# Altium integrated library Connectors - Other.IntLib: 13 symbols
Pins are listed as number, name and electrical type; pins without a type are passive.

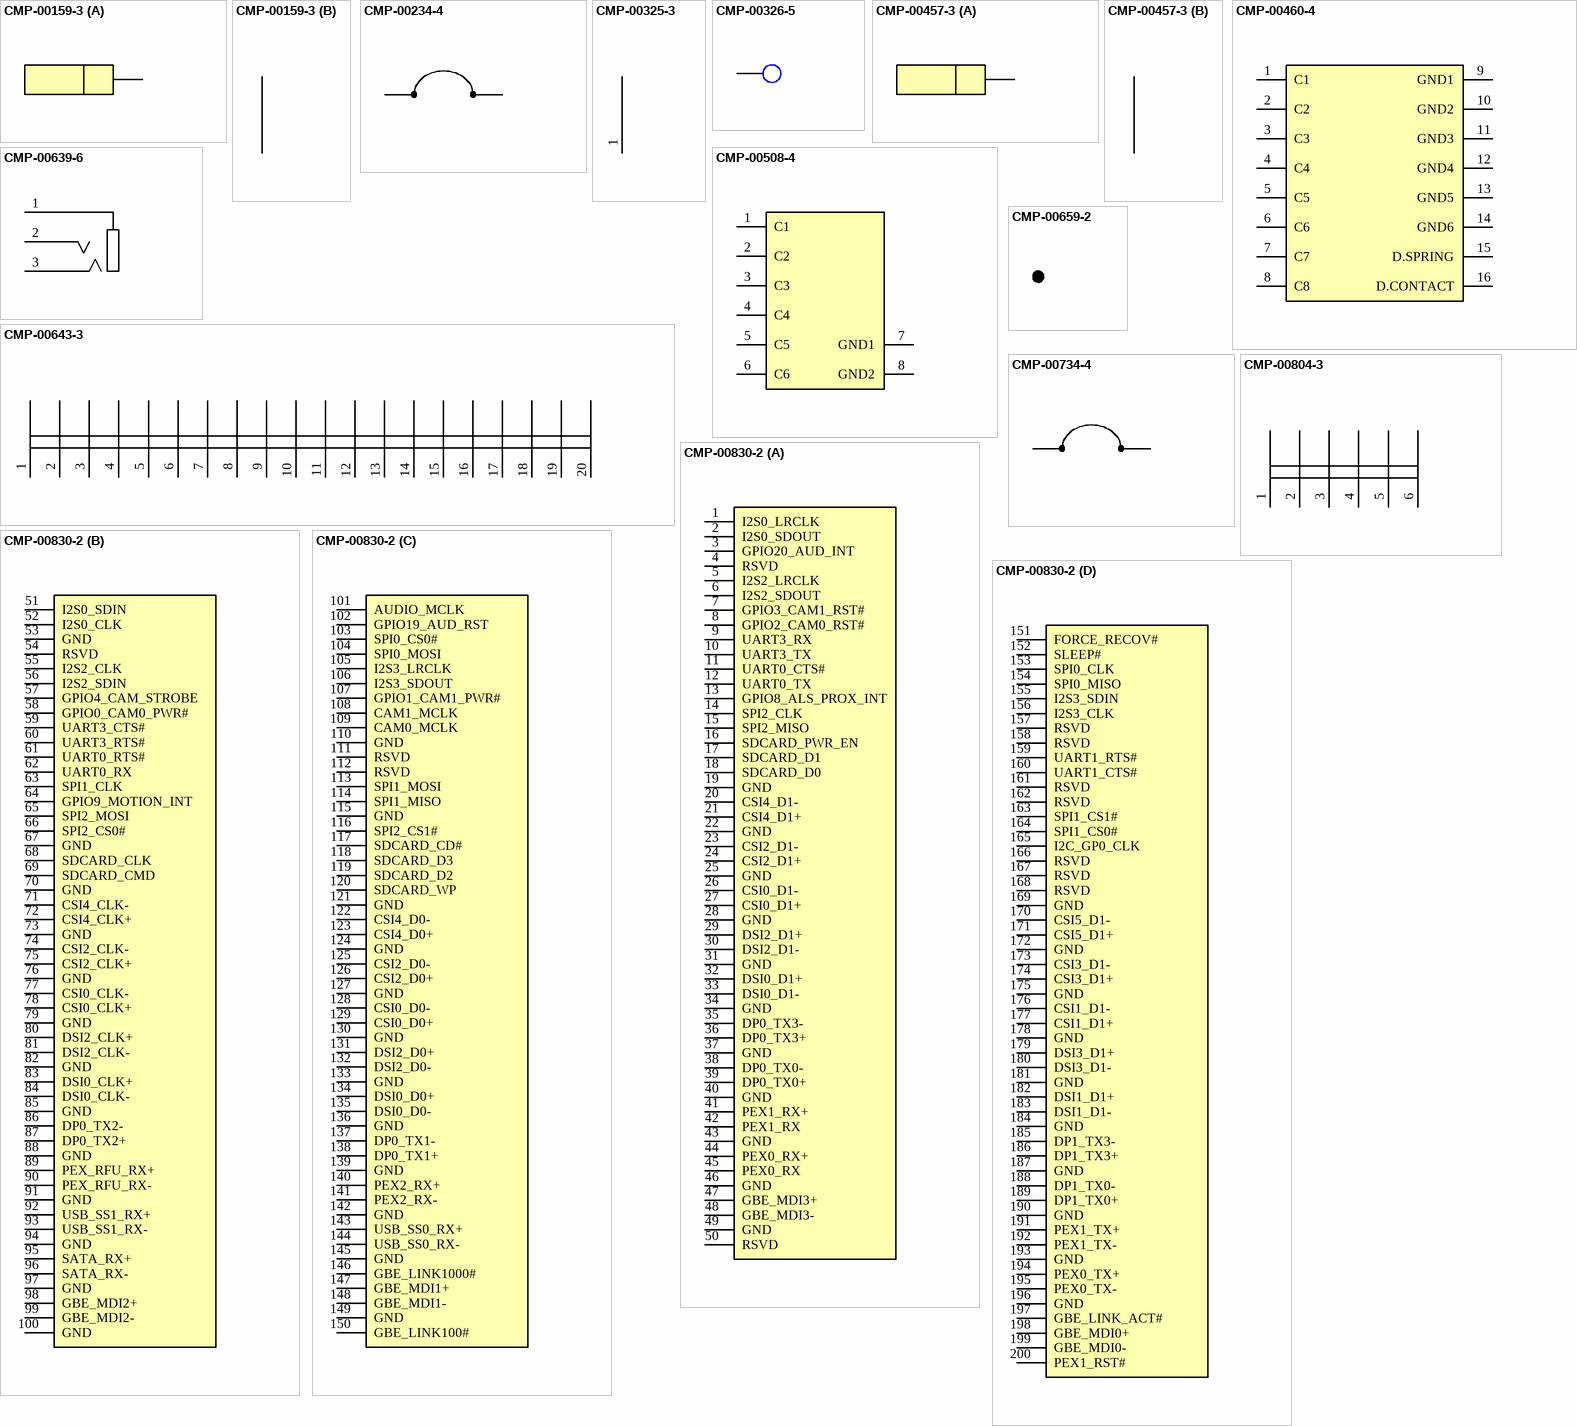
[diagram p0: symbols CMP-00159-3 to CMP-00830-2]

## CMP-00159-3
designator WT?
WT; Component Name: Connector, WT; Package: WT; Marking: *; Value: WT; ComponentLink1Description: Datasheet; ComponentLink1URL: *
footprint WT
part A pins: 1
part B pins: 1

## CMP-00234-4
designator J?, comment Jumper
Component Name: Jumper; Package: *; Marking: *; Value: *; ComponentLink1Description: Datasheet; ComponentLink1URL: *
footprint Jumper
pins: 1, 2

## CMP-00325-3
designator X?
Pad (SOIC-8); Component Name: Connector, Pad (SOIC-8); Package: PAD; Marking: *; Value: Pad (SOIC-8); ComponentLink1Description: Datasheet; ComponentLink1URL: *
footprint Pad (SOIC-8)
pins: 1

## CMP-00326-5
designator TP?  (no BOM)
TP 0.8mm; Component Name: Connector, TP 0.8mm; Package: 0.8mm; Marking: *; ComponentLink1Description: Datasheet; ComponentLink1URL: *
footprint TP 0.8mm
pins: 1

## CMP-00457-3
designator WT?
WT, 2.5x7mm; Component Name: Connector, WT, 2.5x7mm; Package: 2.5x7mm; Value: 2.5x7mm; ComponentLink1Description: Datasheet; ComponentLink1URL: *
footprint 2.5x7mm
part A pins: 1
part B pins: 1

## CMP-00460-4
designator X?, comment 115I-AEAA
115I-AEAA, MICRO SIM; Component Name: MICRO SIM, 115I-AEAA; Package: 115I-AEAA; Marking: 115I-AEAA; Value: 115I-AEAA; ComponentLink1Description: Datasheet; ComponentLink1URL: https://www.soselectronic.com/productdata/16/08/00/160800/115I-AEAA.pdf
footprint 115I-AEAA, MICRO SIM
pins: 1 C1, 2 C2, 3 C3, 4 C4, 5 C5, 6 C6, 7 C7, 8 C8, 9 GND1, 10 GND2, 11 GND3, 12 GND4, 13 GND5, 14 GND6, 15 D.SPRING, 16 D.CONTACT

## CMP-00508-4
designator X?, comment KLS1-SIM-015
KLS1-SIM-015, SIM; Component Name: SIM, KLS1-SIM-015; Package: KLS1-SIM-015; Marking: KLS1-SIM-015; Value: KLS1-SIM-015; ComponentLink1Description: Datasheet; ComponentLink1URL: http://www.klsele.com/admin/product_upload/20120423160720KLS1-SIM-015-06.pdf
footprint KLS1-SIM-015-6P
pins: 1 С1, 2 С2, 3 С3, 4 С4, 5 С5, 6 С6, 7 GND1, 8 GND2

## CMP-00639-6
designator J?, comment PJ2011C
Component Name: Phone Jack, PJ2011C 2.5mm, 5x5x12mm; Package: 5x5x12mm; Marking: PJ2011C; Value: PJ2011C; ComponentLink1Description: Datasheet; ComponentLink1URL: http://www.hy1688.com/SWITCH/DC%20JACK%20HOME/PHONE_File/PJ2011C.pdf
footprint PJ2011С
pins: 1, 2, 3

## CMP-00643-3
designator X?, comment ZF2A
ZF2A, FFC, 0.5MM, 20W; Component Name: FFC, ZF2A, 0.5mm, 20W; Package: 0.5mm x20; Marking: ZF2A; Value: ZF2A; ComponentLink1Description: Datasheet; ComponentLink1URL: *
footprint FFC 0.5MM 20W
pins: 1, 2, 3, 4, 5, 6, 7, 8, 9, 10, 11, 12, 13, 14, 15, 16, 17, 18, 19, 20

## CMP-00659-2
designator F?
Fiducial; Value: Fiducial; ComponentLink1Description: Datasheet; Component Name: Fiducial; ComponentLink1URL: *; Marking: *; Package: Fiducial
footprint Fiducial
pins: 0

## CMP-00734-4
designator J?, comment Jumper, 2.54mm
Component Name: Jumper, 2.54mm; Package: 2.54mm; Marking: Jumper; Value: Jumper; ComponentLink1Description: Datasheet; ComponentLink1URL: http://radio18.ru/catalog/docs/414.pdf
footprint Jumper 2.54
pins: 1, 2

## CMP-00804-3
designator X?, comment TC2030-IDC
Component Name: Connector, TC2030-IDC; ComponentLink1URL: http://www.tag-connect.com/Materials/TC2030-IDC.pdf; Value: TC2030-IDC; ComponentLink1Description: Datasheet; Marking: TC2030-IDC; Package: TC2030-IDC
footprint TC2030-IDC
pins: 1, 2, 3, 4, 5, 6

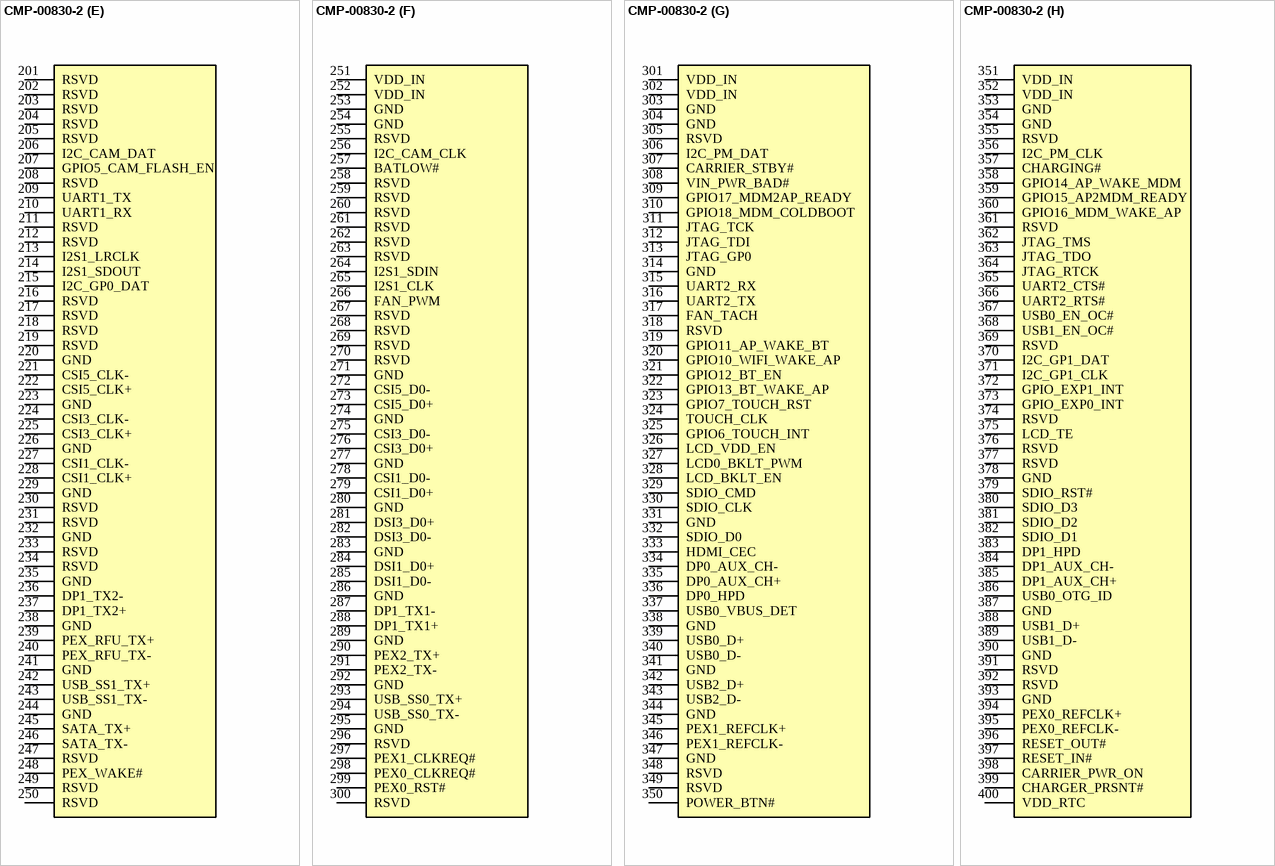
[diagram p1: symbol CMP-00830-2]

## CMP-00830-2
designator X?, comment SEAF-50-05.0-S-08-2-A-K-TR
Component Name: Connector, SEAF-50-05.0-S-08-2-A-K-TR, 400 pins, 1.27mm; ComponentLink1URL: http://suddendocs.samtec.com/catalog_english/seaf.pdf; Value: SEAF-50-05.0-S-08-2-A-K-TR; ComponentLink1Description: Datasheet; Marking: SEAF-50-05.0-S-08-2-A-K-TR; Package: SEAF-50-05.0-S-08-2-A-K-TR
footprint SEAF-50-05.0-S-08-2-A-K-TR
part A pins: 1 I2S0_LRCLK (power), 2 I2S0_SDOUT (power), 3 GPIO20_AUD_INT (power), 4 RSVD (power), 5 I2S2_LRCLK (power), 6 I2S2_SDOUT (power), 7 GPIO3_CAM1_RST# (power), 8 GPIO2_CAM0_RST# (power), 9 UART3_RX (power), 10 UART3_TX (power), 11 UART0_CTS# (power), 12 UART0_TX (power), 13 GPIO8_ALS_PROX_INT (power), 14 SPI2_CLK (power), 15 SPI2_MISO (power), 16 SDCARD_PWR_EN (power), 17 SDCARD_D1 (power), 18 SDCARD_D0 (power), 19 GND (power), 20 CSI4_D1- (power), 21 CSI4_D1+ (power), 22 GND (power), 23 CSI2_D1- (power), 24 CSI2_D1+ (power), 25 GND (power), 26 CSI0_D1- (power), 27 CSI0_D1+ (power), 28 GND (power), 29 DSI2_D1+ (power), 30 DSI2_D1- (power), 31 GND (power), 32 DSI0_D1+ (power), 33 DSI0_D1- (power), 34 GND (power), 35 DP0_TX3- (power), 36 DP0_TX3+ (power), 37 GND (power), 38 DP0_TX0- (power), 39 DP0_TX0+ (power), 40 GND (power), 41 PEX1_RX+ (power), 42 PEX1_RX (power), 43 GND (power), 44 PEX0_RX+ (power), 45 PEX0_RX (power), 46 GND (power), 47 GBE_MDI3+ (power), 48 GBE_MDI3- (power), 49 GND (power), 50 RSVD (power)
part B pins: 51 I2S0_SDIN (power), 52 I2S0_CLK (power), 53 GND (power), 54 RSVD (power), 55 I2S2_CLK (power), 56 I2S2_SDIN (power), 57 GPIO4_CAM_STROBE (power), 58 GPIO0_CAM0_PWR# (power), 59 UART3_CTS# (power), 60 UART3_RTS# (power), 61 UART0_RTS# (power), 62 UART0_RX (power), 63 SPI1_CLK (power), 64 GPIO9_MOTION_INT (power), 65 SPI2_MOSI (power), 66 SPI2_CS0# (power), 67 GND (power), 68 SDCARD_CLK (power), 69 SDCARD_CMD (power), 70 GND (power), 71 CSI4_CLK- (power), 72 CSI4_CLK+ (power), 73 GND (power), 74 CSI2_CLK- (power), 75 CSI2_CLK+ (power), 76 GND (power), 77 CSI0_CLK- (power), 78 CSI0_CLK+ (power), 79 GND (power), 80 DSI2_CLK+ (power), 81 DSI2_CLK- (power), 82 GND (power), 83 DSI0_CLK+ (power), 84 DSI0_CLK- (power), 85 GND (power), 86 DP0_TX2- (power), 87 DP0_TX2+ (power), 88 GND (power), 89 PEX_RFU_RX+ (power), 90 PEX_RFU_RX- (power), 91 GND (power), 92 USB_SS1_RX+ (power), 93 USB_SS1_RX- (power), 94 GND (power), 95 SATA_RX+ (power), 96 SATA_RX- (power), 97 GND (power), 98 GBE_MDI2+ (power), 99 GBE_MDI2- (power), 100 GND (power)
part C pins: 101 AUDIO_MCLK (power), 102 GPIO19_AUD_RST (power), 103 SPI0_CS0# (power), 104 SPI0_MOSI (power), 105 I2S3_LRCLK (power), 106 I2S3_SDOUT (power), 107 GPIO1_CAM1_PWR# (power), 108 CAM1_MCLK (power), 109 CAM0_MCLK (power), 110 GND (power), 111 RSVD (power), 112 RSVD (power), 113 SPI1_MOSI (power), 114 SPI1_MISO (power), 115 GND (power), 116 SPI2_CS1# (power), 117 SDCARD_CD# (power), 118 SDCARD_D3 (power), 119 SDCARD_D2 (power), 120 SDCARD_WP (power), 121 GND (power), 122 CSI4_D0- (power), 123 CSI4_D0+ (power), 124 GND (power), 125 CSI2_D0- (power), 126 CSI2_D0+ (power), 127 GND (power), 128 CSI0_D0- (power), 129 CSI0_D0+ (power), 130 GND (power), 131 DSI2_D0+ (power), 132 DSI2_D0- (power), 133 GND (power), 134 DSI0_D0+ (power), 135 DSI0_D0- (power), 136 GND (power), 137 DP0_TX1- (power), 138 DP0_TX1+ (power), 139 GND (power), 140 PEX2_RX+ (power), 141 PEX2_RX- (power), 142 GND (power), 143 USB_SS0_RX+ (power), 144 USB_SS0_RX- (power), 145 GND (power), 146 GBE_LINK1000# (power), 147 GBE_MDI1+ (power), 148 GBE_MDI1- (power), 149 GND (power), 150 GBE_LINK100# (power)
part D pins: 151 FORCE_RECOV# (power), 152 SLEEP# (power), 153 SPI0_CLK (power), 154 SPI0_MISO (power), 155 I2S3_SDIN (power), 156 I2S3_CLK (power), 157 RSVD (power), 158 RSVD (power), 159 UART1_RTS# (power), 160 UART1_CTS# (power), 161 RSVD (power), 162 RSVD (power), 163 SPI1_CS1# (power), 164 SPI1_CS0# (power), 165 I2C_GP0_CLK (power), 166 RSVD (power), 167 RSVD (power), 168 RSVD (power), 169 GND (power), 170 CSI5_D1- (power), 171 CSI5_D1+ (power), 172 GND (power), 173 CSI3_D1- (power), 174 CSI3_D1+ (power), 175 GND (power), 176 CSI1_D1- (power), 177 CSI1_D1+ (power), 178 GND (power), 179 DSI3_D1+ (power), 180 DSI3_D1- (power), 181 GND (power), 182 DSI1_D1+ (power), 183 DSI1_D1- (power), 184 GND (power), 185 DP1_TX3- (power), 186 DP1_TX3+ (power), 187 GND (power), 188 DP1_TX0- (power), 189 DP1_TX0+ (power), 190 GND (power), 191 PEX1_TX+ (power), 192 PEX1_TX- (power), 193 GND (power), 194 PEX0_TX+ (power), 195 PEX0_TX- (power), 196 GND (power), 197 GBE_LINK_ACT# (power), 198 GBE_MDI0+ (power), 199 GBE_MDI0- (power), 200 PEX1_RST# (power)
part E pins: 201 RSVD (power), 202 RSVD (power), 203 RSVD (power), 204 RSVD (power), 205 RSVD (power), 206 I2C_CAM_DAT (power), 207 GPIO5_CAM_FLASH_EN (power), 208 RSVD (power), 209 UART1_TX (power), 210 UART1_RX (power), 211 RSVD (power), 212 RSVD (power), 213 I2S1_LRCLK (power), 214 I2S1_SDOUT (power), 215 I2C_GP0_DAT (power), 216 RSVD (power), 217 RSVD (power), 218 RSVD (power), 219 RSVD (power), 220 GND (power), 221 CSI5_CLK- (power), 222 CSI5_CLK+ (power), 223 GND (power), 224 CSI3_CLK- (power), 225 CSI3_CLK+ (power), 226 GND (power), 227 CSI1_CLK- (power), 228 CSI1_CLK+ (power), 229 GND (power), 230 RSVD (power), 231 RSVD (power), 232 GND (power), 233 RSVD (power), 234 RSVD (power), 235 GND (power), 236 DP1_TX2- (power), 237 DP1_TX2+ (power), 238 GND (power), 239 PEX_RFU_TX+ (power), 240 PEX_RFU_TX- (power), 241 GND (power), 242 USB_SS1_TX+ (power), 243 USB_SS1_TX- (power), 244 GND (power), 245 SATA_TX+ (power), 246 SATA_TX- (power), 247 RSVD (power), 248 PEX_WAKE# (power), 249 RSVD (power), 250 RSVD (power)
part F pins: 251 VDD_IN (power), 252 VDD_IN (power), 253 GND (power), 254 GND (power), 255 RSVD (power), 256 I2C_CAM_CLK (power), 257 BATLOW# (power), 258 RSVD (power), 259 RSVD (power), 260 RSVD (power), 261 RSVD (power), 262 RSVD (power), 263 RSVD (power), 264 I2S1_SDIN (power), 265 I2S1_CLK (power), 266 FAN_PWM (power), 267 RSVD (power), 268 RSVD (power), 269 RSVD (power), 270 RSVD (power), 271 GND (power), 272 CSI5_D0- (power), 273 CSI5_D0+ (power), 274 GND (power), 275 CSI3_D0- (power), 276 CSI3_D0+ (power), 277 GND (power), 278 CSI1_D0- (power), 279 CSI1_D0+ (power), 280 GND (power), 281 DSI3_D0+ (power), 282 DSI3_D0- (power), 283 GND (power), 284 DSI1_D0+ (power), 285 DSI1_D0- (power), 286 GND (power), 287 DP1_TX1- (power), 288 DP1_TX1+ (power), 289 GND (power), 290 PEX2_TX+ (power), 291 PEX2_TX- (power), 292 GND (power), 293 USB_SS0_TX+ (power), 294 USB_SS0_TX- (power), 295 GND (power), 296 RSVD (power), 297 PEX1_CLKREQ# (power), 298 PEX0_CLKREQ# (power), 299 PEX0_RST# (power), 300 RSVD (power)
part G pins: 301 VDD_IN (power), 302 VDD_IN (power), 303 GND (power), 304 GND (power), 305 RSVD (power), 306 I2C_PM_DAT (power), 307 CARRIER_STBY# (power), 308 VIN_PWR_BAD# (power), 309 GPIO17_MDM2AP_READY (power), 310 GPIO18_MDM_COLDBOOT (power), 311 JTAG_TCK (power), 312 JTAG_TDI (power), 313 JTAG_GP0 (power), 314 GND (power), 315 UART2_RX (power), 316 UART2_TX (power), 317 FAN_TACH (power), 318 RSVD (power), 319 GPIO11_AP_WAKE_BT (power), 320 GPIO10_WIFI_WAKE_AP (power), 321 GPIO12_BT_EN (power), 322 GPIO13_BT_WAKE_AP (power), 323 GPIO7_TOUCH_RST (power), 324 TOUCH_CLK (power), 325 GPIO6_TOUCH_INT (power), 326 LCD_VDD_EN (power), 327 LCD0_BKLT_PWM (power), 328 LCD_BKLT_EN (power), 329 SDIO_CMD (power), 330 SDIO_CLK (power), 331 GND (power), 332 SDIO_D0 (power), 333 HDMI_CEC (power), 334 DP0_AUX_CH- (power), 335 DP0_AUX_CH+ (power), 336 DP0_HPD (power), 337 USB0_VBUS_DET (power), 338 GND (power), 339 USB0_D+ (power), 340 USB0_D- (power), 341 GND (power), 342 USB2_D+ (power), 343 USB2_D- (power), 344 GND (power), 345 PEX1_REFCLK+ (power), 346 PEX1_REFCLK- (power), 347 GND (power), 348 RSVD (power), 349 RSVD (power), 350 POWER_BTN# (power)
part H pins: 351 VDD_IN (power), 352 VDD_IN (power), 353 GND (power), 354 GND (power), 355 RSVD (power), 356 I2C_PM_CLK (power), 357 CHARGING# (power), 358 GPIO14_AP_WAKE_MDM (power), 359 GPIO15_AP2MDM_READY (power), 360 GPIO16_MDM_WAKE_AP (power), 361 RSVD (power), 362 JTAG_TMS (power), 363 JTAG_TDO (power), 364 JTAG_RTCK (power), 365 UART2_CTS# (power), 366 UART2_RTS# (power), 367 USB0_EN_OC# (power), 368 USB1_EN_OC# (power), 369 RSVD (power), 370 I2C_GP1_DAT (power), 371 I2C_GP1_CLK (power), 372 GPIO_EXP1_INT (power), 373 GPIO_EXP0_INT (power), 374 RSVD (power), 375 LCD_TE (power), 376 RSVD (power), 377 RSVD (power), 378 GND (power), 379 SDIO_RST# (power), 380 SDIO_D3 (power), 381 SDIO_D2 (power), 382 SDIO_D1 (power), 383 DP1_HPD (power), 384 DP1_AUX_CH- (power), 385 DP1_AUX_CH+ (power), 386 USB0_OTG_ID (power), 387 GND (power), 388 USB1_D+ (power), 389 USB1_D- (power), 390 GND (power), 391 RSVD (power), 392 RSVD (power), 393 GND (power), 394 PEX0_REFCLK+ (power), 395 PEX0_REFCLK- (power), 396 RESET_OUT# (power), 397 RESET_IN# (power), 398 CARRIER_PWR_ON (power), 399 CHARGER_PRSNT# (power), 400 VDD_RTC (power)